# EAGLE library part WL-S7DS_0.3INCH_COMMON-CATHODE (library WL-S7DS)
WL-S7DS 7 Segments Display SMT Single Digit Characteristics Industrial standard size and schematic Low power consumption Grey surface Milky / Diffuesed segments Driving with DC current in forward direction only Suitable for high peak current upto 100 mA Applications Audio / measure equipment Instrument panels Digital read out display Control units <https://www.we-online.com/components/media/o335301v209%20WL-S7DS_Group.jpg> Details see: www.we-online.com/en/components/products/WL_S7DS <www.we-online.com/catalog/WL_S7DS/?utm_source=eagle_model&utm_medium=description_link&utm_campaign=eisos_eagle> Updated by Ella Wu, 2022-05-12 2022 (C) Wurth Elektronik
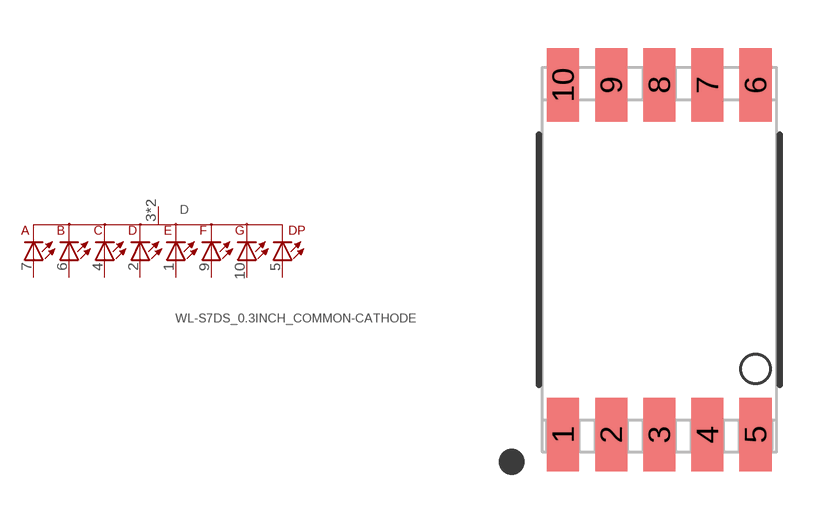
[diagram p2: symbol with the pads of WL-S7DS_0.3INCH; footprint WL-S7DS_0.3INCH]

Designator prefix D

## WL-S7DS_0.3INCH_COMMON-CATHODE_157112B12700 (CIRCUITRY: Common Cathode; DATASHEET-URL: https://www.we-online.com/redexpert/spec/157112B12700?ae; EMITTING-COLOR: Blue; FORWARD-VOLTAGE-TYP: 3V; HEIGHT: 3.75mm; LENGTH: 12mm; LUMINOUS-INTENSITY-TYP: 32mcd; PART-NUMBER: 157112B12700; VALUE: 157112B12700; WIDTH: 7.3mm), WL-S7DS_0.3INCH_COMMON-CATHODE_157112S12700 (CIRCUITRY: Common Cathode; DATASHEET-URL: https://www.we-online.com/redexpert/spec/157112S12700?ae; EMITTING-COLOR: Super Red; FORWARD-VOLTAGE-TYP: 2V; HEIGHT: 3.75mm; LENGTH: 12mm; LUMINOUS-INTENSITY-TYP: 28mcd; PART-NUMBER: 157112S12700; VALUE: 157112S12700; WIDTH: 7.3mm), WL-S7DS_0.3INCH_COMMON-CATHODE_157112V12700 (CIRCUITRY: Common Cathode; DATASHEET-URL: https://www.we-online.com/redexpert/spec/157112V12700?ae; EMITTING-COLOR: Bright Green; FORWARD-VOLTAGE-TYP: 2V; HEIGHT: 3.75mm; LENGTH: 12mm; LUMINOUS-INTENSITY-TYP: 21mcd; PART-NUMBER: 157112V12700; VALUE: 157112V12700; WIDTH: 7.3mm)  [WL-S7DS_0.3INCH]
1  1  pas
2  2  pas
3  -  pas
4  4  pas
5  5  pas
6  6  pas
7  7  pas
8  -  pas
9  9  pas
10  10  pas

## Footprint WL-S7DS_0.3INCH (pad centres in mm)
WL-S7DS 7 Segments Display SMT Single Digit Size: 0.3inch, SMT, 10pins L X W X H=12mm X 7.3mm X 3.75mm
smd 1 x 2.3: 1 -3,-5.45; 2 -1.5,-5.45; 3 0,-5.45; 4 1.5,-5.45; 5 3,-5.45; 6 3,5.45; 7 1.5,5.45; 8 0,5.45; 9 -1.5,5.45; 10 -3,5.45